# EAGLE library part JTAG-ISP-AVR-6P (library Connector)
AVR ISP-6 Serial Programming Header
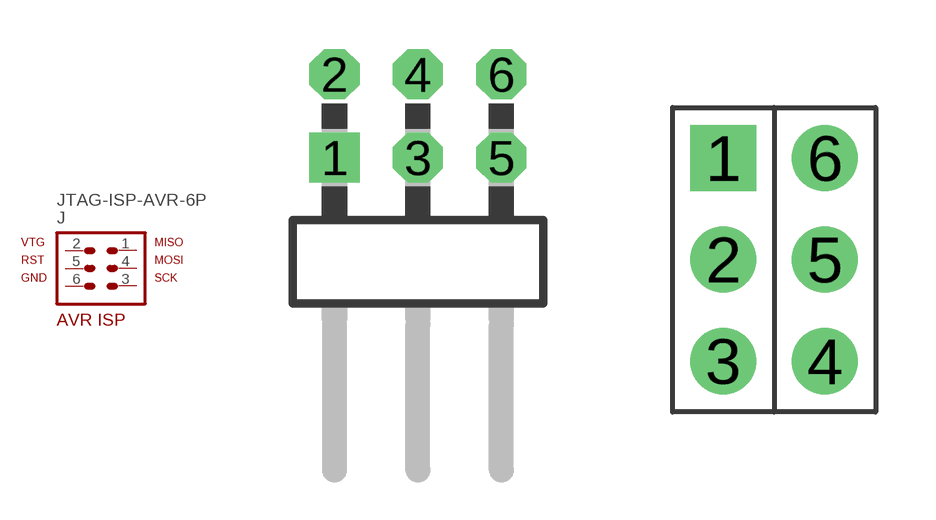
[diagram p26: symbol with the pads of 2X3P-2.54-90D; footprints 2X3P-2.54-90D, 2X3P-2.54]

Designator prefix J

## JTAG-ISP-AVR-6P-90D  [2X3P-2.54-90D]
1  1  pas
2  2  pas
3  3  pas
4  4  pas
5  5  pas
6  6  pas

## JTAG-ISP-AVR-6P  [2X3P-2.54]
Pads as for 2X3P-2.54-90D

## Footprint 2X3P-2.54-90D (pad centres in mm)
PIN HEADER AVR ISP 6 Pin, 0.1" Right Angle
drill 1.016 square: 1 -2.54,-1.27
drill 1.016 octagon: 2 -2.54,1.27; 3 0,-1.27; 4 0,1.27; 5 2.54,-1.27; 6 2.54,1.27

## Footprint 2X3P-2.54 (pad centres in mm)
drill 0.889 pad 1.651 square: 1 -1.27,2.54
drill 0.889 pad 1.651 round: 2 -1.27,0; 3 -1.27,-2.54; 4 1.27,-2.54; 5 1.27,0; 6 1.27,2.54